# Altium footprint library KX1_DB.PcbLib: 18 footprints (part 2 of 2)
Each footprint in its own frame and in the unit in brackets; x right, y up, seen from the top. Pads: shape width x height; smd on the part's side, far side on the other; paste and mask are expansions set on the pad; w line width, h text height; cw(c..) or ccw(c..) is an arc to the next point about the centre after c.
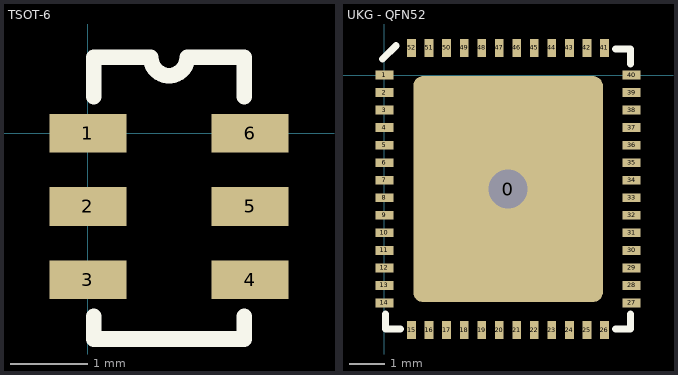
[diagram p1: the footprints below, top view; thin cyan lines are the x and y axes]

## TSOT-6 [mm]
pads (6):
  rect 1x0.5 smd: 1(0,0) 2(0,-0.95) 3(0,-1.9) 4(2.102,-1.9) 5(2.102,-0.95) 6(2.102,0)
Top Overlay:
  lines w0.203: 0.078,-2.375 0.078,-2.667 2.024,-2.667 2.024,-2.375 ; 0.078,0.475 0.078,0.983 0.813,0.983 ccw(c1.051,0.983) 1.288,0.983 2.024,0.983 2.024,0.475

## UKG - QFN52 [mil]
pads (53):
  rrect10% 212.99x253.94 hole 44: 0(139,-128)
  rect 20x10 smd: 1(0,0) 2(0,-19.68) 3(0,-39.37) 4(0,-59.05) 5(0,-78.74) 6(0,-98.42) 7(0,-118.11) 8(0,-137.79) 9(0,-157.48) 10(0,-177.16) 11(0,-196.85) 12(0,-216.53) 13(0,-236.22) 14(0,-255.91) 27(277.72,-255.91) 28(277.72,-236.22) 29(277.72,-216.53) 30(277.72,-196.85) 31(277.72,-177.16) 32(277.72,-157.48) 33(277.72,-137.79) 34(277.72,-118.11) 35(277.72,-98.42) 36(277.72,-78.74) 37(277.72,-59.05) 38(277.72,-39.37) 39(277.72,-19.68) 40(277.72,0)
  rect 10x20 smd: 15(30.59,-286.5) 16(50.28,-286.5) 17(69.96,-286.5) 18(89.65,-286.5) 19(109.33,-286.5) 20(129.02,-286.5) 21(148.7,-286.5) 22(168.39,-286.5) 23(188.07,-286.5) 24(207.76,-286.5) 25(227.44,-286.5) 26(247.13,-286.5) 41(247.13,30.59) 42(227.44,30.59) 43(207.76,30.59) 44(188.07,30.59) 45(168.39,30.59) 46(148.7,30.59) 47(129.02,30.59) 48(109.33,30.59) 49(89.65,30.59) 50(69.96,30.59) 51(50.28,30.59) 52(30.59,30.59)
Top Overlay:
  lines w8: -2,18 13,33 ; 1.13,-268.75 1.13,-285.37 17.75,-285.37 ; 259.97,-285.37 276.59,-285.37 276.59,-268.75 ; 259.97,29.46 276.59,29.46 276.59,12.84